# EAGLE library part 2П7240 (library transistors-field-effect)
АЕЯР.432140.605 ТУ Транзисторная сборка с 2 N-MOSFET Тип UСИ max, В IС max, А RСИ откр, Ом UПОР, В Структура Pmax, Вт 2П7241ГС9 -20 -4,7 0,030 |-1,0| ÷ |-2,5| Р 2 2П7241АС9 -30 -8 0,035 2П7241БС9 -60 -3,5 0,250 2П7241ВС9 -100 -1,5 0,500 2П7240ГС9 20 8,7 0,022 1,5 ÷ 2,5 N 2П7240АС9 30 10 0,020 2П7240БС9 60 5 0,060 2П7240ВС9 100 3,5 0,085 2ПЕ102АС9 -100 -1,5 0,48 |-2,5| ÷ |-5,0| P 2ПЕ101АС9 100 2,1 0,21 1,5 ÷ 6,0 N Производитель: АО "ВЗПП" г. Воронеж
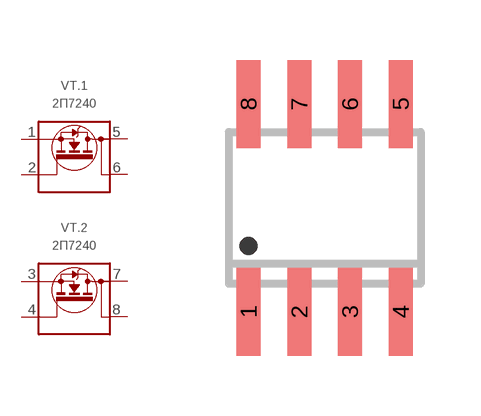
[diagram p2: symbol with the pads of 4320.8-А; footprint 4320.8-А]

Designator prefix VT; gates .1=N-MOSFET_8PIN .2=N-MOSFET_8PIN

## 2П7240ГС9  [4320.8-А]
1  .1:S  pas
2  .1:G  pas
3  .2:S  pas
4  .2:G  pas
5  .1:D  pas
6  .1:D  pas
7  .2:D  pas
8  .2:D  pas

## 2П7240АС9  [4320.8-А]
Pads as for 4320.8-А

## 2П7240БС9  [4320.8-А]
Pads as for 4320.8-А

## 2П7240ВС9  [4320.8-А]
Pads as for 4320.8-А

## Footprint 4320.8-А (pad centres in mm)
Российский аналог корпуса SO-8
smd 0.6 x 2.2: 1 -1.905,-2.6; 2 -0.635,-2.6; 3 0.635,-2.6; 4 1.905,-2.6; 5 1.905,2.6; 6 0.635,2.6; 7 -0.635,2.6; 8 -1.905,2.6